# Altium schematic symbol library zenner-A1C3.SchLib: 1 symbol
Pins are listed as number, name and electrical type; pins without a type are passive.

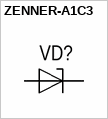
[diagram p0: symbol ZENNER-A1C3]

## ZENNER-A1C3
designator VD?
pins: 1 A, 3 C
2 alternate drawings of the same symbol